# Altium footprint library RPSLib_Sensor.PcbLib: 6 footprints
Each footprint in its own frame and in the unit in brackets; x right, y up, seen from the top. Pads: shape width x height; smd on the part's side, far side on the other; paste and mask are expansions set on the pad; w line width, h text height; cw(c..) or ccw(c..) is an arc to the next point about the centre after c.
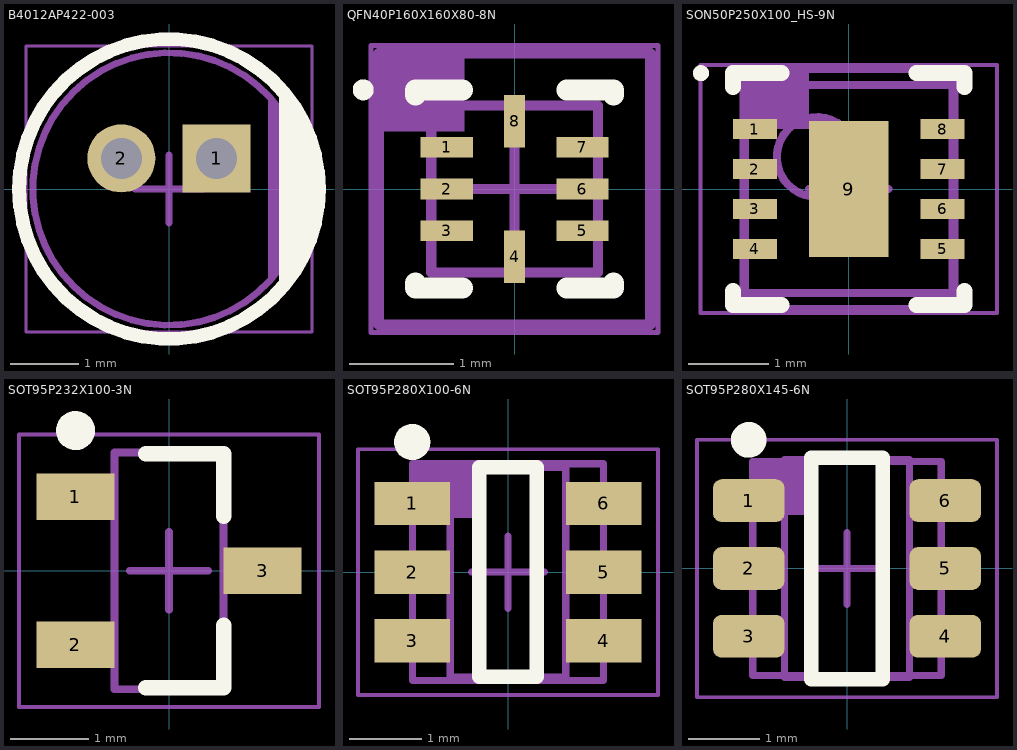
[diagram p0: the footprints below, top view; thin cyan lines are the x and y axes]

## B4012AP422-003 [mm] "Microphone Throw - hole, d4h1.4"
height 1.4
pads (2):
  rect 1x1 hole 0.6 mask+0.07: 1(0.7,0.45)
  round 1 hole 0.6 mask+0.07: 2(-0.7,0.45)
Top Overlay:
  circle w0.2: c0,0 r2.202
  lines w0.2: 1.716,-1.347 1.716,1.381 ; 1.839,-1.133 1.839,1.212 ; 1.953,-0.541 2.084,-0.409 2.084,0.433 ; 2.007,-0.857 2.007,0.907
Mechanical 1:
  circle w0.1: c0,0 r2
  lines w0.1: 1.507,-1.293 1.507,1.315 ; 1.556,-1.202 1.556,1.215 ; 1.607,-1.1 1.607,1.141 ; 1.663,-0.998 1.663,1.044 ; 1.709,-0.827 1.778,-0.758 1.778,0.818 ; 1.723,-0.901 1.723,0.919 ; 1.832,-0.673 1.832,0.696 ; 1.881,-0.537 1.881,0.546 ; 1.907,-0.343 1.931,-0.32 1.931,0.332
  text ".Designator" at -1.126,-0.113 h0.5
Mechanical 13:
  circle w0.1: c0,0 r2
Mechanical 15:
  lines w0.05: -2.1,-2.1 2.1,-2.1 2.1,2.1 -2.1,2.1 -2.1,-2.1
  lines w0.1: -0.5,0 0.5,0 ; 0,-0.5 0,0.5
3D body "Mic B4012AP422-003.stp": height 1.5, standoff -1.6, extent -1.988,-1.997 2,1.997

## QFN40P160X160X80-8N [mm] "QFN, 8-Leads, Body 1,60x1,60mm, Pitch 0,40mm, IPC Medium Density"
height 0.8
pads (8):
  rect 0.5x0.2 smd: 1(-0.65,0.4) 2(-0.65,0) 3(-0.65,-0.4) 5(0.65,-0.4) 6(0.65,0) 7(0.65,0.4)
  rect 0.2x0.5 smd: 4(0,-0.65) 8(0,0.65)
Top Overlay:
  circle w0.1: c-1.45,0.95 r0.05
  lines w0.2: -0.95,-0.9 -0.95,-0.95 -0.5,-0.95 ; -0.95,0.9 -0.95,0.95 -0.5,0.95 ; 0.5,-0.95 0.95,-0.95 0.95,-0.9 ; 0.5,0.95 0.95,0.95 0.95,0.9
Mechanical 1:
  rectangle: -1.3,0.55 -0.48,1.3
  lines w0.1: -1.3,-1.3 1.3,-1.3 1.3,1.3 -1.3,1.3 -1.3,-1.3
  text ".Designator" at -1.126,-0.113 h0.5
Mechanical 13:
  lines w0.1: -0.8,-0.8 -0.8,0.8 0.8,0.8 0.8,-0.8 -0.8,-0.8
Mechanical 15:
  lines w0.05: -1.375,-1.375 -1.375,1.375 1.375,1.375 1.375,-1.375 -1.375,-1.375
  lines w0.1: -0.5,0 0.5,0 ; 0,-0.5 0,0.5
3D body "QFN40P160X160X80-8N!!!!.step": height 0.8, standoff 0, extent -0.81,-0.81 0.81,0.81

## SON50P250X100_HS-9N [mm] "Description: SON, 8-Leads, Body 2,50x2,50mm, Pitch 0,50mm, Thermal Pad 1,80x1,09mm, IPC Medium Density"
height 1
pads (9):
  rect 0.55x0.25 smd: 1(-1.175,0.75) 2(-1.175,0.25) 3(-1.175,-0.25) 4(-1.175,-0.75) 5(1.175,-0.75) 6(1.175,-0.25) 7(1.175,0.25) 8(1.175,0.75)
  rect 1x1.7 smd: 9(0,0)
Top Overlay:
  circle w0.1: c-1.85,1.45 r0.05
  lines w0.2: -1.45,-1.275 -1.45,-1.45 -0.845,-1.45 ; -1.45,1.275 -1.45,1.45 -0.845,1.45 ; 0.845,-1.45 1.45,-1.45 1.45,-1.275 ; 0.845,1.45 1.45,1.45 1.45,1.275
Mechanical 1:
  rectangle: -1.32,0.75 -0.5,1.5
  lines w0.1: -1.32,-1.5 -1.32,1.5 1.32,1.5 1.32,-1.5 -1.32,-1.5
  text ".Designator" at -0.113,1.126 h0.5
Mechanical 13:
  circle w0.1: c-0.4,0.4 r0.5
  lines w0.1: -1.3,-1.3 -1.3,1.3 1.3,1.3 1.3,-1.3 -1.3,-1.3
Mechanical 15:
  lines w0.05: -1.855,-1.55 -1.855,1.55 1.855,1.55 1.855,-1.55 -1.855,-1.55
  lines w0.1: -0.5,0 0.5,0 ; 0,-0.5 0,0.5
3D body "SON50P250X100_HS-9N.step": height 1, standoff 0, extent -1.3,-1.3 1.3,1.3

## SOT95P232X100-3N [mm] "SOT23, 3-Leads, Body 2.92x2.32mm, Pitch 0.95mm, IPC Medium Density"
height 1
pads (3):
  rect 1x0.6 smd paste-0.03: 1(-1.2,0.95) 2(-1.2,-0.95) 3(1.2,0)
Top Overlay:
  circle w0.25: c-1.2,1.8 r0.125
  lines w0.2: -0.3,-1.5 0.7,-1.5 0.7,-0.7 ; -0.3,1.5 0.7,1.5 0.7,0.7
Mechanical 13:
  lines w0.1: -0.7,-1.52 -0.7,1.52 0.7,1.52 0.7,-1.52 -0.7,-1.52
Mechanical 15:
  lines w0.05: -1.925,-1.75 -1.925,1.75 1.925,1.75 1.925,-1.75 -1.925,-1.75
  lines w0.1: -0.5,0 0.5,0 ; 0,-0.5 0,0.5
3D body "SOT95P232X100-3N.step": height 1, standoff 0, extent -1.32,-1.52 1.32,1.52

## SOT95P280X100-6N [mm] "SOT23, 6-Leads, Body 2,90x2,80mm, Pitch 0,95mm, IPC Medium Density"
height 1
pads (6):
  rect 1.05x0.6 smd: 1(-1.325,0.95) 2(-1.325,0) 3(-1.325,-0.95) 4(1.325,-0.95) 5(1.325,0) 6(1.325,0.95)
Top Overlay:
  circle w0.25: c-1.325,1.8 r0.125
  lines w0.2: -0.4,-1.45 -0.4,1.45 0.4,1.45 0.4,-1.45 -0.4,-1.45
Mechanical 1:
  rectangle: -1.32,0.75 -0.5,1.5
  lines w0.1: -1.32,-1.5 -1.32,1.5 1.32,1.5 1.32,-1.5 -1.32,-1.5
  text ".Designator" at -0.113,1.126 h0.5
Mechanical 13:
  lines w0.1: -0.8,-1.45 0.8,-1.45 0.8,1.45 -0.8,1.45 -0.8,-1.45
Mechanical 15:
  lines w0.05: -2.075,-1.7 2.075,-1.7 2.075,1.7 -2.075,1.7 -2.075,-1.7
  lines w0.1: -0.5,0 0.5,0 ; 0,-0.5 0,0.5
3D body "SOT95P280X100-6N.step": height 1, standoff 0, extent -1.4,-1.45 1.4,1.45

## SOT95P280X145-6N [mm] "SOT23, 6-Leads, Body 2.92x2.80mm, Pitch 0.95mm, IPC Medium Density"
height 1.45
pads (6):
  rrect40% 1x0.6 smd mask+0.07: 1(-1.375,0.95) 2(-1.375,0) 3(-1.375,-0.95) 4(1.375,-0.95) 5(1.375,0) 6(1.375,0.95)
Top Overlay:
  circle w0.25: c-1.375,1.8 r0.125
  lines w0.2: -0.5,-1.55 -0.5,1.55 0.5,1.55 0.5,-1.55 -0.5,-1.55
Mechanical 1:
  rectangle: -1.32,0.75 -0.5,1.5
  lines w0.1: -1.32,-1.5 -1.32,1.5 1.32,1.5 1.32,-1.5 -1.32,-1.5
  text ".Designator" at -0.113,1.126 h0.5
Mechanical 13:
  lines w0.1: -0.875,-1.525 0.875,-1.525 0.875,1.525 -0.875,1.525 -0.875,-1.525
Mechanical 15:
  lines w0.05: -2.1,-1.8 2.1,-1.8 2.1,1.8 -2.1,1.8 -2.1,-1.8
  lines w0.1: -0.5,0 0.5,0 ; 0,-0.5 0,0.5
3D body "SOT95P280X145-6N_.step": height 1.45, standoff 0, extent -1.6,-1.525 1.6,1.525